# Altium footprint library Synthiam.PcbLib: 481 footprints (part 2 of 31)
Each footprint in its own frame and in the unit in brackets; x right, y up, seen from the top. Pads: shape width x height; smd on the part's side, far side on the other; paste and mask are expansions set on the pad; w line width, h text height; cw(c..) or ccw(c..) is an arc to the next point about the centre after c.
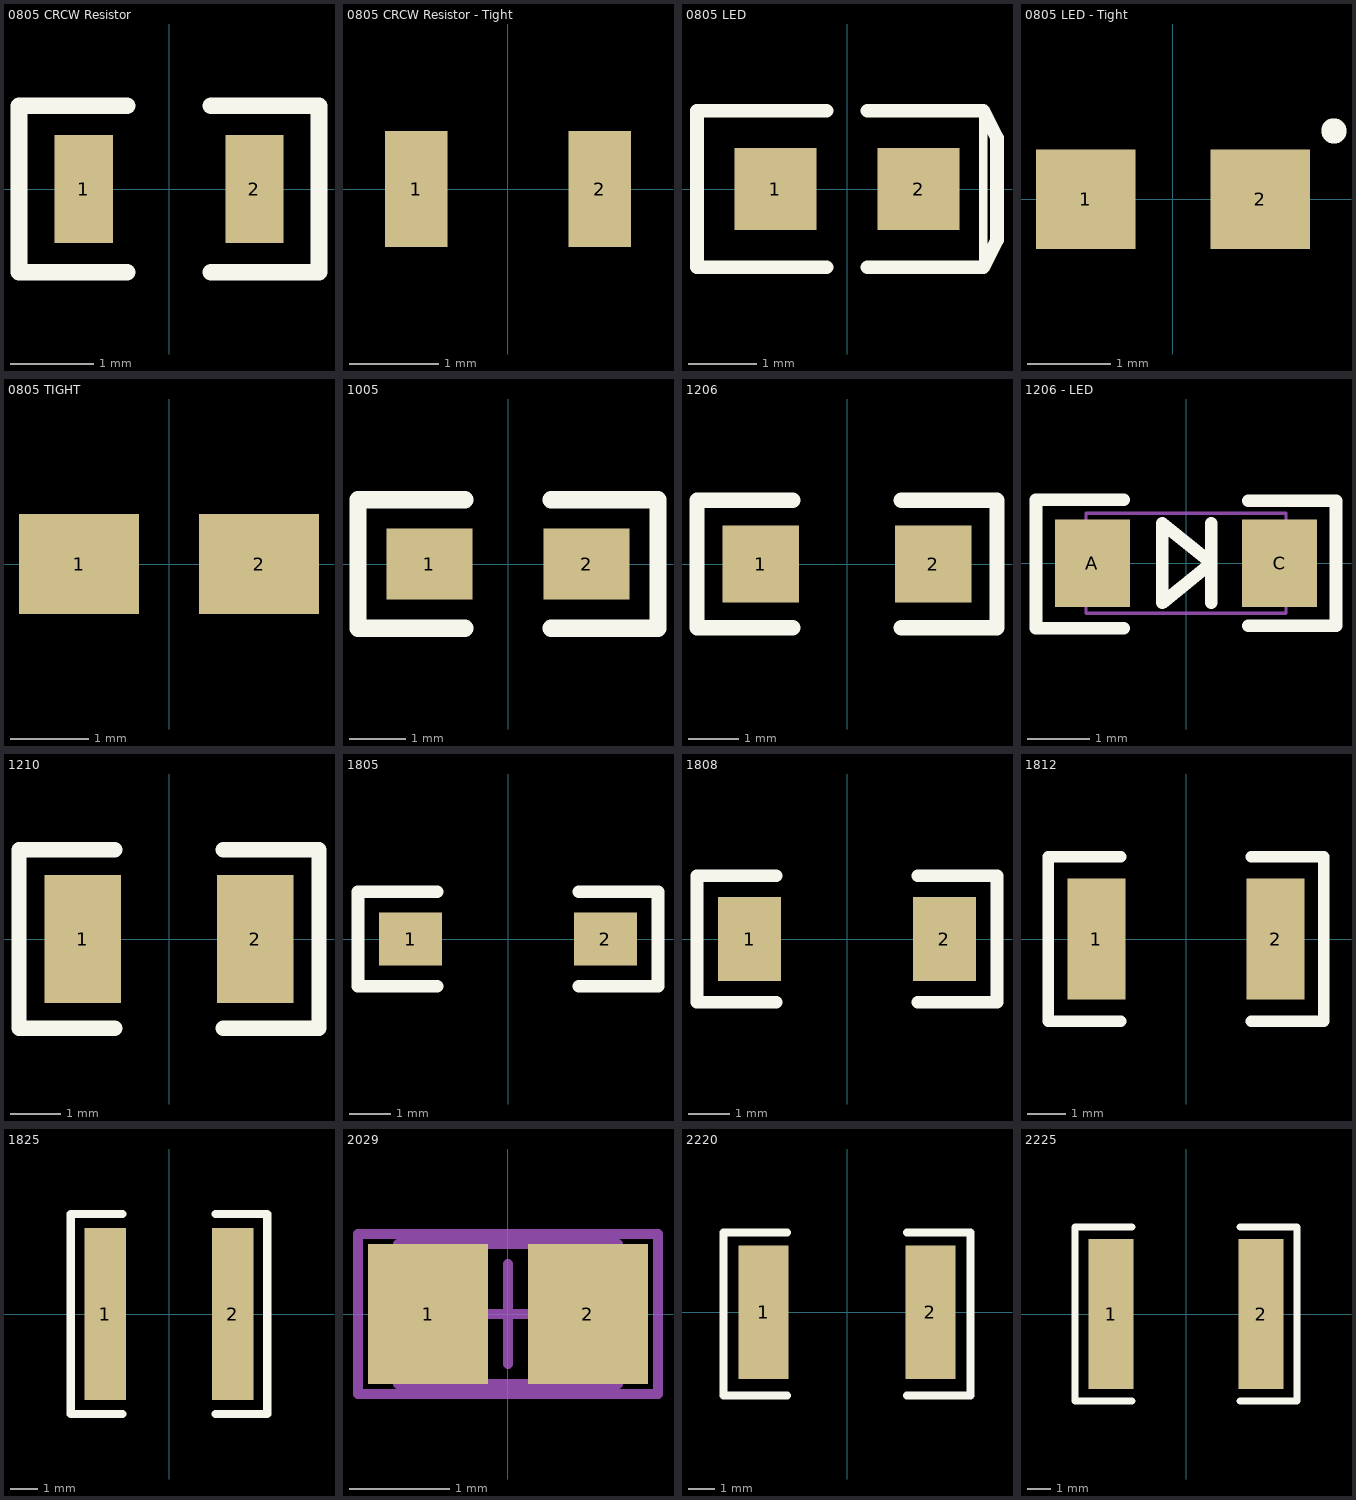
[diagram p1: the footprints below, top view; thin cyan lines are the x and y axes]

## 0805 CRCW Resistor [mm] "HVWPN1030 CRCW0805470RJNEA"
height 0.45
pads (2):
  rect 0.7x1.3 smd: 1(-1.025,0) 2(1.025,0)
Top Overlay:
  lines w0.2: -0.5,-1 -1.8,-1 -1.8,1 -0.5,1 ; 0.5,-1 1.8,-1 1.8,1 0.5,1

## 0805 CRCW Resistor - Tight [mm] "HVWPN1030 CRCW0805470RJNEA"
height 0.45
pads (2):
  rect 0.7x1.3 smd: 1(-1.025,0) 2(1.025,0)

## 0805 LED [mm] "SMT LED; 2 Flat Leads; Lite-Oon LTST-C170CKT"
height 1.2
pads (2):
  rect 1.2x1.2 smd: 1(-1.05,0) 2(1.05,0)
Top Overlay:
  lines w0.127: 2,-1.15 2,1.15 ; 2,1.15 2,1.15
  lines w0.2: -0.3,-1.15 -2.2,-1.15 -2.2,1.15 -0.3,1.15 ; 0.3,-1.15 2,-1.15 2.2,-0.75 2.2,0.75 2,1.15 0.3,1.15

## 0805 LED - Tight [mm] "SMT LED; 2 Flat Leads; Lite-Oon LTST-C170CKT"
height 1.2
pads (2):
  rect 1.2x1.2 smd: 1(-1.05,0) 2(1.05,0)
Top Overlay:
  circle w0.254: c1.94,0.825 r0.025

## 0805 TIGHT [mil]
pads (2):
  rect 60x50 smd: 1(-45,0) 2(45,0)

## 1005 [mil]
height 181.1
pads (2):
  rect 60x50 smd: 1(-55,0) 2(55,0)
Top Overlay:
  lines w12: -30,-45 -105,-45 -105,45 -30,45 ; 30,-45 105,-45 105,45 30,45

## 1206 [mil]
height 181.1
pads (2):
  rect 60x60 smd: 1(-67.5,0) 2(67.5,0)
Top Overlay:
  lines w12: -42.5,-50 -117.5,-50 -117.5,50 -42.5,50 ; 42.5,-50 117.5,-50 117.5,50 42.5,50

## 1206 - LED [mm]
pads (2):
  rect 1.2x1.4 smd paste+0.2: A(-1.5,0) C(1.5,0)
Top Overlay:
  lines w0.203: -2.4,-1.041 -1,-1.041 ; -2.4,-1 -2.4,1 ; -2.4,1.016 -1,1.016 ; 0.406,-0.635 0.406,0 ; 0.406,0.635 0.406,0 ; 1,-1 2.4,-1 2.4,1 1,1 ; 0.406,0 -0.381,-0.635 -0.381,0.635 0.406,0
Mechanical 1:
  lines w0.051: -1.6,-0.8 1.6,-0.8 1.6,0.8 -1.6,0.8 -1.6,-0.8

## 1210 [mil]
height 181.1
pads (2):
  rect 60x100 smd: 1(-67.5,0) 2(67.5,0)
Top Overlay:
  lines w12: -42.5,-70 -117.5,-70 -117.5,70 -42.5,70 ; 42.5,-70 117.5,-70 117.5,70 42.5,70

## 1805 [mil]
height 181.1
pads (2):
  rect 60x50 smd: 1(-92.5,0) 2(92.5,0)
Top Overlay:
  lines w12: -67.5,-45 -142.5,-45 -142.5,45 -67.5,45 ; 67.5,-45 142.5,-45 142.5,45 67.5,45

## 1808 [mil]
height 181.1
pads (2):
  rect 60x80 smd: 1(-92.5,0) 2(92.5,0)
Top Overlay:
  lines w12: -67.5,-60 -142.5,-60 -142.5,60 -67.5,60 ; 67.5,-60 142.5,-60 142.5,60 67.5,60

## 1812 [mil]
height 181.1
pads (2):
  rect 60x125 smd: 1(-92.5,0) 2(92.5,0)
Top Overlay:
  lines w12: -67.5,-85 -142.5,-85 -142.5,85 -67.5,85 ; 67.5,-85 142.5,-85 142.5,85 67.5,85

## 1825 [mil]
height 181.1
pads (2):
  rect 60x250 smd: 1(-92.5,0) 2(92.5,0)
Top Overlay:
  lines w12: -67.5,-145 -142.5,-145 -142.5,145 -67.5,145 ; 67.5,-145 142.5,-145 142.5,145 67.5,145

## 2029 [mm] "Chip Inductor, Body 2.0x1.2mm, IPC High Density"
height 0.55
pads (2):
  rect 1.2x1.4 smd: 1(-0.8,0) 2(0.8,0)
Mechanical 13:
  lines w0.1: -1.1,-0.7 1.1,-0.7 1.1,0.7 -1.1,0.7 -1.1,-0.7
Mechanical 15:
  lines w0.1: -0.5,0 0.5,0 ; 0,-0.5 0,0.5 ; -1.5,-0.8 1.5,-0.8 1.5,0.8 -1.5,0.8 -1.5,-0.8
3D body: height 0.55, standoff 0, extent -1.1,-0.7 1.1,0.7

## 2220 [mil]
height 181.1
pads (2):
  rect 75x200 smd: 1(-125,0) 2(125,0)
Top Overlay:
  lines w12: -90,-125 -185,-125 -185,120 -90,120 ; 90,-125 185,-125 185,120 90,120

## 2225 [mil]
height 181.1
pads (2):
  rect 75x250 smd: 1(-125,0) 2(125,0)
Top Overlay:
  lines w12: -90,-145 -185,-145 -185,145 -90,145 ; 90,-145 185,-145 185,145 90,145